# Altium footprint library PcbLib5.PcbLib: 1 footprints
Each footprint in its own frame and in the unit in brackets; x right, y up, seen from the top. Pads: shape width x height; smd on the part's side, far side on the other; paste and mask are expansions set on the pad; w line width, h text height; cw(c..) or ccw(c..) is an arc to the next point about the centre after c.
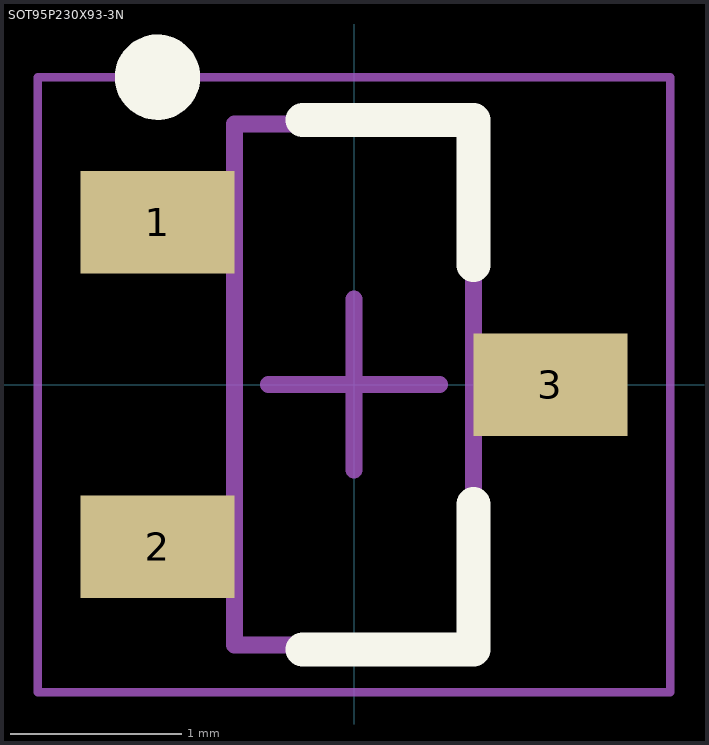
[diagram p0: the footprint, top view; thin cyan lines are the x and y axes]

## SOT95P230X93-3N [mm] "SOT23, 3-Leads, Body 2.92x2.30mm, Pitch 0.95mm, IPC Medium Density"
height 0.93
pads (3):
  rect 0.9x0.6 smd: 1(-1.15,0.95) 2(-1.15,-0.95) 3(1.15,0)
Top Overlay:
  circle w0.25: c-1.15,1.8 r0.125
  lines w0.2: -0.3,-1.55 0.7,-1.55 0.7,-0.7 ; -0.3,1.55 0.7,1.55 0.7,0.7
Mechanical 13:
  lines w0.1: -0.7,-1.525 0.7,-1.525 0.7,1.525 -0.7,1.525 -0.7,-1.525
Mechanical 15:
  lines w0.05: -1.85,-1.8 1.85,-1.8 1.85,1.8 -1.85,1.8 -1.85,-1.8
  lines w0.1: -0.5,0 0.5,0 ; 0,-0.5 0,0.5
3D body "SOT95P230X93-3N.step": height 0.93, standoff 0, extent -1.245,-1.525 1.245,1.525